# EAGLE library part TC11IB (library infineon-tricore)
32-Bit Single-Chip Microcontroller TriCore Family Source: http://www.infineon.com .. TC11IB_DS_v24.pdf
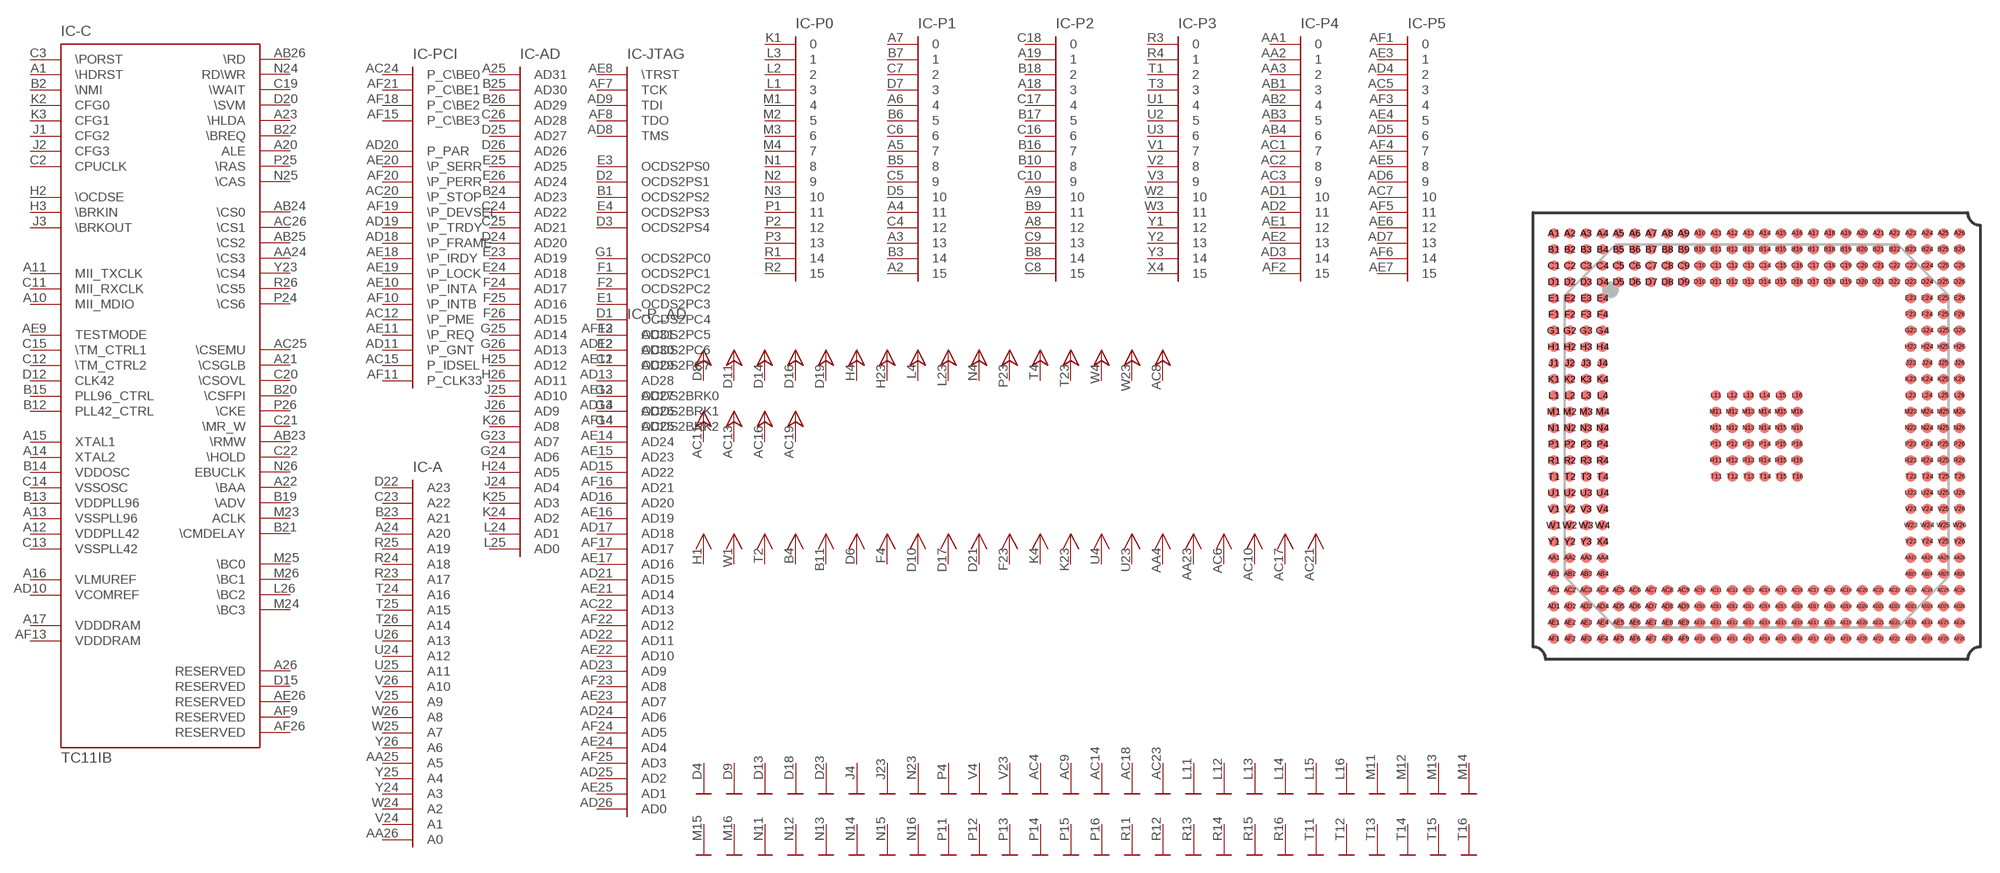
[diagram p4: symbol with the pads of P-BGA-388-2; footprint P-BGA-388-2]

Designator prefix IC; gates -C=TC11IB -PCI=PCI -AD=AD31 -JTAG=ODCS/JTAG -P0=PORT16 -P1=PORT16 -P2=PORT16 -P3=PORT16 -P4=PORT16 -P5=PORT16 -P_AD=AD31 -A=A23 -VSS1=VSS -VSS2=VSS -VSS3=VSS -VSS4=VSS -VSS5=VSS -VSS6=VSS -VSS7=VSS -VSS8=VSS -VSS9=VSS -VSS10=VSS -VSS11=VSS -VSS12=VSS -VSS13=VSS -VSS14=VSS -VSS15=VSS -VSS16=VSS -VSS17=VSS -VSS18=VSS -VSS19=VSS -VSS20=VSS -VSS21=VSS -VSS22=VSS -VSS23=VSS -VSS24=VSS -VSS25=VSS -VSS26=VSS -VSS27=VSS -VSS28=VSS -VSS29=VSS -VSS30=VSS -VSS31=VSS -VSS32=VSS -VSS33=VSS -VSS34=VSS -VSS35=VSS -VSS36=VSS -VSS37=VSS -VSS38=VSS -VSS39=VSS -VSS40=VSS -VSS41=VSS -VSS42=VSS -VSS43=VSS -VSS44=VSS -VSS45=VSS -VSS46=VSS -VSS47=VSS -VSS48=VSS -VSS49=VSS -VSS50=VSS -VSS51=VSS -VSS52=VSS VDDP1=VDDP VDDP2=VDDP VDDP3=VDDP VDDP4=VDDP VDDP5=VDDP VDDP6=VDDP VDDP7=VDDP VDDP8=VDDP VDDP9=VDDP VDDP10=VDDP VDDP11=VDDP VDDP12=VDDP VDDP13=VDDP VDDP14=VDDP VDDP15=VDDP VDDP16=VDDP VDDP17=VDDP VDDP18=VDDP VDDP19=VDDP VDDP20=VDDP VDD1=VDD VDD2=VDD VDD3=VDD VDD4=VDD VDD5=VDD VDD6=VDD VDD7=VDD VDD8=VDD VDD9=VDD VDD10=VDD VDD11=VDD VDD12=VDD VDD13=VDD VDD14=VDD VDD15=VDD VDD16=VDD VDD17=VDD VDD18=VDD VDD19=VDD VDD20=VDD VDD21=VDD

## TC11IB  [P-BGA-388-2]
A1  -C:\HDRST
A2  -P1:15  in
A3  -P1:13  in
A4  -P1:11  in
A5  -P1:7  in
A6  -P1:4  in
A7  -P1:0  in
A8  -P2:12  in
A9  -P2:10  in
A10  -C:MII_MDIO  in
A11  -C:MII_TXCLK  in
A12  -C:VDDPLL42  in
A13  -C:VSSPLL96  in
A14  -C:XTAL2  out
A15  -C:XTAL1  in
A16  -C:VLMUREF  in
A17  -C:VDDDRAM  in
A18  -P2:3  in
A19  -P2:1  in
A20  -C:ALE  out
A21  -C:\CSGLB  out
A22  -C:\BAA  out
A23  -C:\HLDA
A24  -A:A20  out
A25  -AD:AD31
A26  -C:RESERVED  out
AA1  -P4:0  in
AA2  -P4:1  in
AA3  -P4:2  in
AA4  VDD16:VDD  pwr
AA23  VDD17:VDD  pwr
AA24  -C:\CS3  out
AA25  -A:A5  out
AA26  -A:A0  out
AB1  -P4:3  in
AB2  -P4:4  in
AB3  -P4:5  in
AB4  -P4:6  in
AB23  -C:\RMW  out
AB24  -C:\CS0  out
AB25  -C:\CS2  out
AB26  -C:\RD
AC1  -P4:7  in
AC2  -P4:8  in
AC3  -P4:9  in
AC4  -VSS12:VSS  pwr
AC5  -P5:3  in
AC6  VDD18:VDD  pwr
AC7  -P5:10  in
AC8  VDDP16:VDDP  pwr
AC9  -VSS13:VSS  pwr
AC10  VDD19:VDD  pwr
AC11  VDDP17:VDDP  pwr
AC12  -PCI:\P_PME  out
AC13  VDDP18:VDDP  pwr
AC14  -VSS14:VSS  pwr
AC15  -PCI:P_IDSEL  in
AC16  VDDP19:VDDP  pwr
AC17  VDD20:VDD  pwr
AC18  -VSS15:VSS  pwr
AC19  VDDP20:VDDP  pwr
AC20  -PCI:\P_STOP
AC21  VDD21:VDD  pwr
AC22  -P_AD:AD13
AC23  -VSS16:VSS  pwr
AC24  -PCI:P_C\BE0
AC25  -C:\CSEMU  out
AC26  -C:\CS1  out
AD1  -P4:10  in
AD2  -P4:11  in
AD3  -P4:14  in
AD4  -P5:2  in
AD5  -P5:6  in
AD6  -P5:9  in
AD7  -P5:13  in
AD8  -JTAG:TMS  in
AD9  -JTAG:TDI  in
AD10  -C:VCOMREF  in
AD11  -PCI:\P_GNT  in
AD12  -P_AD:AD30
AD13  -P_AD:AD28
AD14  -P_AD:AD26
AD15  -P_AD:AD22
AD16  -P_AD:AD20
AD17  -P_AD:AD18
AD18  -PCI:\P_FRAME
AD19  -PCI:\P_TRDY
AD20  -PCI:P_PAR
AD21  -P_AD:AD15
AD22  -P_AD:AD11
AD23  -P_AD:AD9
AD24  -P_AD:AD6
AD25  -P_AD:AD2
AD26  -P_AD:AD0
AE1  -P4:12  in
AE2  -P4:13  in
AE3  -P5:1  in
AE4  -P5:5  in
AE5  -P5:8  in
AE6  -P5:12  in
AE7  -P5:15  in
AE8  -JTAG:\TRST  in
AE9  -C:TESTMODE  in
AE10  -PCI:\P_INTA  out
AE11  -PCI:\P_REQ  out
AE12  -P_AD:AD29
AE13  -P_AD:AD27
AE14  -P_AD:AD24
AE15  -P_AD:AD23
AE16  -P_AD:AD19
AE17  -P_AD:AD16
AE18  -PCI:\P_IRDY
AE19  -PCI:\P_LOCK
AE20  -PCI:\P_SERR
AE21  -P_AD:AD14
AE22  -P_AD:AD10
AE23  -P_AD:AD7
AE24  -P_AD:AD4
AE25  -P_AD:AD1
AE26  -C:RESERVED
AF1  -P5:0  in
AF2  -P4:15  in
AF3  -P5:4  in
AF4  -P5:7  in
AF5  -P5:11  in
AF6  -P5:14  in
AF7  -JTAG:TCK  in
AF8  -JTAG:TDO  out
AF9  -C:RESERVED
AF10  -PCI:\P_INTB  out
AF11  -PCI:P_CLK33  in
AF12  -P_AD:AD31
AF13  -C:VDDDRAM  in
AF14  -P_AD:AD25
AF15  -PCI:P_C\BE3
AF16  -P_AD:AD21
AF17  -P_AD:AD17
AF18  -PCI:P_C\BE2
AF19  -PCI:\P_DEVSEL
AF20  -PCI:\P_PERR
AF21  -PCI:P_C\BE1
AF22  -P_AD:AD12
AF23  -P_AD:AD8
AF24  -P_AD:AD5
AF25  -P_AD:AD3
AF26  -C:RESERVED
B1  -JTAG:OCDS2PS2  out
B2  -C:\NMI  in
B3  -P1:14  in
B4  VDD4:VDD  pwr
B5  -P1:8  in
B6  -P1:5  in
B7  -P1:1  in
B8  -P2:14  in
B9  -P2:11  in
B10  -P2:8  in
B11  VDD5:VDD  pwr
B12  -C:PLL42_CTRL  out
B13  -C:VDDPLL96  in
B14  -C:VDDOSC  in
B15  -C:PLL96_CTRL  out
B16  -P2:7  in
B17  -P2:5  in
B18  -P2:2  in
B19  -C:\ADV  out
B20  -C:\CSFPI  out
B21  -C:\CMDELAY  in
B22  -C:\BREQ  out
B23  -A:A21  out
B24  -AD:AD23
B25  -AD:AD30
B26  -AD:AD29
C1  -JTAG:OCDS2PC7  out
C2  -C:CPUCLK  out
C3  -C:\PORST  in
C4  -P1:12  in
C5  -P1:9  in
C6  -P1:6  in
C7  -P1:2  in
C8  -P2:15  in
C9  -P2:13  in
C10  -P2:9  in
C11  -C:MII_RXCLK  in
C12  -C:\TM_CTRL2  in
C13  -C:VSSPLL42  in
C14  -C:VSSOSC  in
C15  -C:\TM_CTRL1  in
C16  -P2:6  in
C17  -P2:4  in
C18  -P2:0  in
C19  -C:\WAIT
C20  -C:\CSOVL  out
C21  -C:\MR_W  out
C22  -C:\HOLD  in
C23  -A:A22  out
C24  -AD:AD22
C25  -AD:AD21
C26  -AD:AD28
D1  -JTAG:OCDS2PC4  out
D2  -JTAG:OCDS2PS1  out
D3  -JTAG:OCDS2PS4  out
D4  -VSS1:VSS  pwr
D5  -P1:10  in
D6  VDD6:VDD  pwr
D7  -P1:3  in
D8  VDDP1:VDDP  pwr
D9  -VSS2:VSS  pwr
D10  VDD8:VDD  pwr
D11  VDDP2:VDDP  pwr
D12  -C:CLK42  in
D13  -VSS3:VSS  pwr
D14  VDDP3:VDDP  pwr
D15  -C:RESERVED
D16  VDDP4:VDDP  pwr
D17  VDD9:VDD  pwr
D18  -VSS4:VSS  pwr
D19  VDDP5:VDDP  pwr
D20  -C:\SVM  out
D21  VDD10:VDD  pwr
D22  -A:A23  out
D23  -VSS5:VSS  pwr
D24  -AD:AD20
D25  -AD:AD27
D26  -AD:AD26
E1  -JTAG:OCDS2PC3  out
E2  -JTAG:OCDS2PC6  out
E3  -JTAG:OCDS2PS0  out
E4  -JTAG:OCDS2PS3  out
E23  -AD:AD19
E24  -AD:AD18
E25  -AD:AD25
E26  -AD:AD24
F1  -JTAG:OCDS2PC1  out
F2  -JTAG:OCDS2PC2  out
F3  -JTAG:OCDS2PC5  out
F4  VDD7:VDD  pwr
F23  VDD11:VDD  pwr
F24  -AD:AD17
F25  -AD:AD16
F26  -AD:AD15
G1  -JTAG:OCDS2PC0  out
G2  -JTAG:OCDS2BRK0  out
G3  -JTAG:OCDS2BRK1  out
G4  -JTAG:OCDS2BRK2  out
G23  -AD:AD7
G24  -AD:AD6
G25  -AD:AD14
G26  -AD:AD13
H1  VDD1:VDD  pwr
H2  -C:\OCDSE  in
H3  -C:\BRKIN  in
H4  VDDP6:VDDP  pwr
H23  VDDP7:VDDP  pwr
H24  -AD:AD5
H25  -AD:AD12
H26  -AD:AD11
J1  -C:CFG2
J2  -C:CFG3
J3  -C:\BRKOUT  out
J4  -VSS6:VSS  pwr
J23  -VSS7:VSS  pwr
J24  -AD:AD4
J25  -AD:AD10
J26  -AD:AD9
K1  -P0:0  in
K2  -C:CFG0
K3  -C:CFG1
K4  VDD12:VDD  pwr
K23  VDD13:VDD  pwr
K24  -AD:AD2
K25  -AD:AD3
K26  -AD:AD8
L1  -P0:3  in
L2  -P0:2  in
L3  -P0:1  in
L4  VDDP8:VDDP  pwr
L11  -VSS17:VSS  pwr
L12  -VSS18:VSS  pwr
L13  -VSS19:VSS  pwr
L14  -VSS20:VSS  pwr
L15  -VSS21:VSS  pwr
L16  -VSS22:VSS  pwr
L23  VDDP9:VDDP  pwr
L24  -AD:AD1
L25  -AD:AD0
L26  -C:\BC2
M1  -P0:4  in
M2  -P0:5  in
M3  -P0:6  in
M4  -P0:7  in
M11  -VSS23:VSS  pwr
M12  -VSS24:VSS  pwr
M13  -VSS25:VSS  pwr
M14  -VSS26:VSS  pwr
M15  -VSS27:VSS  pwr
M16  -VSS28:VSS  pwr
M23  -C:ACLK  out
M24  -C:\BC3
M25  -C:\BC0
M26  -C:\BC1
N1  -P0:8  in
N2  -P0:9  in
N3  -P0:10  in
N4  VDDP10:VDDP  pwr
N11  -VSS29:VSS  pwr
N12  -VSS30:VSS  pwr
N13  -VSS31:VSS  pwr
N14  -VSS32:VSS  pwr
N15  -VSS33:VSS  pwr
N16  -VSS34:VSS  pwr
N23  -VSS8:VSS  pwr
N24  -C:RD\WR
N25  -C:\CAS  out
N26  -C:EBUCLK  out
P1  -P0:11  in
P2  -P0:12  in
P3  -P0:13  in
P4  -VSS9:VSS  pwr
P11  -VSS35:VSS  pwr
P12  -VSS36:VSS  pwr
P13  -VSS37:VSS  pwr
P14  -VSS38:VSS  pwr
P15  -VSS39:VSS  pwr
P16  -VSS40:VSS  pwr
P23  VDDP11:VDDP  pwr
P24  -C:\CS6  out
P25  -C:\RAS  out
P26  -C:\CKE  out
R1  -P0:14  in
R2  -P0:15  in
R3  -P3:0  in
R4  -P3:1  in
R11  -VSS41:VSS  pwr
R12  -VSS42:VSS  pwr
R13  -VSS43:VSS  pwr
R14  -VSS44:VSS  pwr
R15  -VSS45:VSS  pwr
R16  -VSS46:VSS  pwr
R23  -A:A17  out
R24  -A:A18  out
R25  -A:A19  out
R26  -C:\CS5  out
T1  -P3:2  in
T2  VDD3:VDD  pwr
T3  -P3:3  in
T4  VDDP12:VDDP  pwr
T11  -VSS47:VSS  pwr
T12  -VSS48:VSS  pwr
T13  -VSS49:VSS  pwr
T14  -VSS50:VSS  pwr
T15  -VSS51:VSS  pwr
T16  -VSS52:VSS  pwr
T23  VDDP13:VDDP  pwr
T24  -A:A16  out
T25  -A:A15  out
T26  -A:A14  out
U1  -P3:4  in
U2  -P3:5  in
U3  -P3:6  in
U4  VDD14:VDD  pwr
U23  VDD15:VDD  pwr
U24  -A:A12  out
U25  -A:A11  out
U26  -A:A13  out
V1  -P3:7  in
V2  -P3:8  in
V3  -P3:9  in
V4  -VSS10:VSS  pwr
V23  -VSS11:VSS  pwr
V24  -A:A1  out
V25  -A:A9  out
V26  -A:A10  out
W1  VDD2:VDD  pwr
W2  -P3:10  in
W3  -P3:11  in
W4  VDDP14:VDDP  pwr
W23  VDDP15:VDDP  pwr
W24  -A:A2  out
W25  -A:A7  out
W26  -A:A8  out
X4  -P3:15  in
Y1  -P3:12  in
Y2  -P3:13  in
Y3  -P3:14  in
Y23  -C:\CS4  out
Y24  -A:A3  out
Y25  -A:A4  out
Y26  -A:A6  out

## Footprint P-BGA-388-2 (pad centres in mm)
P-BGA-388 Plastic Ball Grid Array Package Source: www.infenon.com .. gpa09218.eps.ps
smd 0.8 x 0.8: A1 -15.875,15.875; A2 -14.605,15.875; A3 -13.335,15.875; A4 -12.065,15.875; A5 -10.795,15.875; A6 -9.525,15.875; A7 -8.255,15.875; A8 -6.985,15.875; A9 -5.715,15.875; A10 -4.445,15.875; A11 -3.175,15.875; A12 -1.905,15.875; A13 -0.635,15.875; A14 0.635,15.875; A15 1.905,15.875; A16 3.175,15.875; A17 4.445,15.875; A18 5.715,15.875; A19 6.985,15.875; A20 8.255,15.875; A21 9.525,15.875; A22 10.795,15.875; A23 12.065,15.875; A24 13.335,15.875; A25 14.605,15.875; A26 15.875,15.875; AA1 -15.875,-9.525; AA2 -14.605,-9.525; AA3 -13.335,-9.525; AA4 -12.065,-9.525; AA23 12.065,-9.525; AA24 13.335,-9.525; AA25 14.605,-9.525; AA26 15.875,-9.525; AB1 -15.875,-10.795; AB2 -14.605,-10.795; AB3 -13.335,-10.795; AB4 -12.065,-10.795; AB23 12.065,-10.795; AB24 13.335,-10.795; AB25 14.605,-10.795; AB26 15.875,-10.795; AC1 -15.875,-12.065; AC2 -14.605,-12.065; AC3 -13.335,-12.065; AC4 -12.065,-12.065; AC5 -10.795,-12.065; AC6 -9.525,-12.065; AC7 -8.255,-12.065; AC8 -6.985,-12.065; AC9 -5.715,-12.065; AC10 -4.445,-12.065; AC11 -3.175,-12.065; AC12 -1.905,-12.065; AC13 -0.635,-12.065; AC14 0.635,-12.065; AC15 1.905,-12.065; AC16 3.175,-12.065; AC17 4.445,-12.065; AC18 5.715,-12.065; AC19 6.985,-12.065; AC20 8.255,-12.065; AC21 9.525,-12.065; AC22 10.795,-12.065; AC23 12.065,-12.065; AC24 13.335,-12.065; AC25 14.605,-12.065; AC26 15.875,-12.065; AD1 -15.875,-13.335; AD2 -14.605,-13.335; AD3 -13.335,-13.335; AD4 -12.065,-13.335; AD5 -10.795,-13.335; AD6 -9.525,-13.335; AD7 -8.255,-13.335; AD8 -6.985,-13.335; AD9 -5.715,-13.335; AD10 -4.445,-13.335; AD11 -3.175,-13.335; AD12 -1.905,-13.335; AD13 -0.635,-13.335; AD14 0.635,-13.335; AD15 1.905,-13.335; AD16 3.175,-13.335; AD17 4.445,-13.335; AD18 5.715,-13.335; AD19 6.985,-13.335; AD20 8.255,-13.335; AD21 9.525,-13.335; AD22 10.795,-13.335; AD23 12.065,-13.335; AD24 13.335,-13.335; AD25 14.605,-13.335; AD26 15.875,-13.335; AE1 -15.875,-14.605; AE2 -14.605,-14.605; AE3 -13.335,-14.605; AE4 -12.065,-14.605; AE5 -10.795,-14.605; AE6 -9.525,-14.605; AE7 -8.255,-14.605; AE8 -6.985,-14.605; AE9 -5.715,-14.605; AE10 -4.445,-14.605; AE11 -3.175,-14.605; AE12 -1.905,-14.605; AE13 -0.635,-14.605; AE14 0.635,-14.605; AE15 1.905,-14.605; AE16 3.175,-14.605; AE17 4.445,-14.605; AE18 5.715,-14.605; AE19 6.985,-14.605; AE20 8.255,-14.605; AE21 9.525,-14.605; AE22 10.795,-14.605; AE23 12.065,-14.605; AE24 13.335,-14.605; AE25 14.605,-14.605; AE26 15.875,-14.605; AF1 -15.875,-15.875; AF2 -14.605,-15.875; AF3 -13.335,-15.875; AF4 -12.065,-15.875; AF5 -10.795,-15.875; AF6 -9.525,-15.875; AF7 -8.255,-15.875; AF8 -6.985,-15.875; AF9 -5.715,-15.875; AF10 -4.445,-15.875; AF11 -3.175,-15.875; AF12 -1.905,-15.875; AF13 -0.635,-15.875; AF14 0.635,-15.875; AF15 1.905,-15.875; AF16 3.175,-15.875; AF17 4.445,-15.875; AF18 5.715,-15.875; AF19 6.985,-15.875; AF20 8.255,-15.875; AF21 9.525,-15.875; AF22 10.795,-15.875; AF23 12.065,-15.875; AF24 13.335,-15.875; AF25 14.605,-15.875; AF26 15.875,-15.875; B1 -15.875,14.605; B2 -14.605,14.605; B3 -13.335,14.605; B4 -12.065,14.605; B5 -10.795,14.605; B6 -9.525,14.605; B7 -8.255,14.605; B8 -6.985,14.605; B9 -5.715,14.605; B10 -4.445,14.605; B11 -3.175,14.605; B12 -1.905,14.605; B13 -0.635,14.605; B14 0.635,14.605; B15 1.905,14.605; B16 3.175,14.605; B17 4.445,14.605; B18 5.715,14.605; B19 6.985,14.605; B20 8.255,14.605; B21 9.525,14.605; B22 10.795,14.605; B23 12.065,14.605; B24 13.335,14.605; B25 14.605,14.605; B26 15.875,14.605; C1 -15.875,13.335; C2 -14.605,13.335; C3 -13.335,13.335; C4 -12.065,13.335; C5 -10.795,13.335; C6 -9.525,13.335; C7 -8.255,13.335; C8 -6.985,13.335; C9 -5.715,13.335; C10 -4.445,13.335; C11 -3.175,13.335; C12 -1.905,13.335; C13 -0.635,13.335; C14 0.635,13.335; C15 1.905,13.335; C16 3.175,13.335; C17 4.445,13.335; C18 5.715,13.335; C19 6.985,13.335; C20 8.255,13.335; C21 9.525,13.335; C22 10.795,13.335; C23 12.065,13.335; C24 13.335,13.335; C25 14.605,13.335; C26 15.875,13.335; D1 -15.875,12.065; D2 -14.605,12.065; D3 -13.335,12.065; D4 -12.065,12.065; D5 -10.795,12.065; D6 -9.525,12.065; D7 -8.255,12.065; D8 -6.985,12.065; D9 -5.715,12.065; D10 -4.445,12.065; D11 -3.175,12.065; D12 -1.905,12.065; D13 -0.635,12.065; D14 0.635,12.065; D15 1.905,12.065; D16 3.175,12.065; D17 4.445,12.065; D18 5.715,12.065; D19 6.985,12.065; D20 8.255,12.065; D21 9.525,12.065; D22 10.795,12.065; D23 12.065,12.065; D24 13.335,12.065; D25 14.605,12.065; D26 15.875,12.065; E1 -15.875,10.795; E2 -14.605,10.795; E3 -13.335,10.795; E4 -12.065,10.795; E23 12.065,10.795; E24 13.335,10.795; E25 14.605,10.795; E26 15.875,10.795; F1 -15.875,9.525; F2 -14.605,9.525; F3 -13.335,9.525; F4 -12.065,9.525; F23 12.065,9.525; F24 13.335,9.525; F25 14.605,9.525; F26 15.875,9.525; G1 -15.875,8.255; G2 -14.605,8.255; G3 -13.335,8.255; G4 -12.065,8.255; G23 12.065,8.255; G24 13.335,8.255; G25 14.605,8.255; G26 15.875,8.255; H1 -15.875,6.985; H2 -14.605,6.985; H3 -13.335,6.985; H4 -12.065,6.985; H23 12.065,6.985; H24 13.335,6.985; H25 14.605,6.985; H26 15.875,6.985; J1 -15.875,5.715; J2 -14.605,5.715; J3 -13.335,5.715; J4 -12.065,5.715; J23 12.065,5.715; J24 13.335,5.715; J25 14.605,5.715; J26 15.875,5.715; K1 -15.875,4.445; K2 -14.605,4.445; K3 -13.335,4.445; K4 -12.065,4.445; K23 12.065,4.445; K24 13.335,4.445; K25 14.605,4.445; K26 15.875,4.445; L1 -15.875,3.175; L2 -14.605,3.175; L3 -13.335,3.175; L4 -12.065,3.175; L11 -3.175,3.175; L12 -1.905,3.175; L13 -0.635,3.175; L14 0.635,3.175; L15 1.905,3.175; L16 3.175,3.175; L23 12.065,3.175; L24 13.335,3.175; L25 14.605,3.175; L26 15.875,3.175; M1 -15.875,1.905; M2 -14.605,1.905; M3 -13.335,1.905; M4 -12.065,1.905; M11 -3.175,1.905; M12 -1.905,1.905; M13 -0.635,1.905; M14 0.635,1.905; M15 1.905,1.905; M16 3.175,1.905; M23 12.065,1.905; M24 13.335,1.905; M25 14.605,1.905; M26 15.875,1.905; N1 -15.875,0.635; N2 -14.605,0.635; N3 -13.335,0.635; N4 -12.065,0.635; N11 -3.175,0.635; N12 -1.905,0.635; N13 -0.635,0.635; N14 0.635,0.635; N15 1.905,0.635; N16 3.175,0.635; N23 12.065,0.635; N24 13.335,0.635; N25 14.605,0.635; N26 15.875,0.635; P1 -15.875,-0.635; P2 -14.605,-0.635; P3 -13.335,-0.635; P4 -12.065,-0.635; P11 -3.175,-0.635; P12 -1.905,-0.635; P13 -0.635,-0.635; P14 0.635,-0.635; P15 1.905,-0.635; P16 3.175,-0.635; P23 12.065,-0.635; P24 13.335,-0.635; P25 14.605,-0.635; P26 15.875,-0.635; R1 -15.875,-1.905; R2 -14.605,-1.905; R3 -13.335,-1.905; R4 -12.065,-1.905; R11 -3.175,-1.905; R12 -1.905,-1.905; R13 -0.635,-1.905; R14 0.635,-1.905; R15 1.905,-1.905; R16 3.175,-1.905; R23 12.065,-1.905; R24 13.335,-1.905; R25 14.605,-1.905; R26 15.875,-1.905; T1 -15.875,-3.175; T2 -14.605,-3.175; T3 -13.335,-3.175; T4 -12.065,-3.175; T11 -3.175,-3.175; T12 -1.905,-3.175; T13 -0.635,-3.175; T14 0.635,-3.175; T15 1.905,-3.175; T16 3.175,-3.175; T23 12.065,-3.175; T24 13.335,-3.175; T25 14.605,-3.175; T26 15.875,-3.175; U1 -15.875,-4.445; U2 -14.605,-4.445; U3 -13.335,-4.445; U4 -12.065,-4.445; U23 12.065,-4.445; U24 13.335,-4.445; U25 14.605,-4.445; U26 15.875,-4.445; V1 -15.875,-5.715; V2 -14.605,-5.715; V3 -13.335,-5.715; V4 -12.065,-5.715; V23 12.065,-5.715; V24 13.335,-5.715; V25 14.605,-5.715; V26 15.875,-5.715; W1 -15.875,-6.985; W2 -14.605,-6.985; W3 -13.335,-6.985; W4 -12.065,-6.985; W23 12.065,-6.985; W24 13.335,-6.985; W25 14.605,-6.985; W26 15.875,-6.985; X4 -12.065,-8.255; Y1 -15.875,-8.255; Y2 -14.605,-8.255; Y3 -13.335,-8.255; Y23 12.065,-8.255; Y24 13.335,-8.255; Y25 14.605,-8.255; Y26 15.875,-8.255